# Altium footprint library Buzzer.PcbLib: 1 footprints
Each footprint in its own frame and in the unit in brackets; x right, y up, seen from the top. Pads: shape width x height; smd on the part's side, far side on the other; paste and mask are expansions set on the pad; w line width, h text height; cw(c..) or ccw(c..) is an arc to the next point about the centre after c.
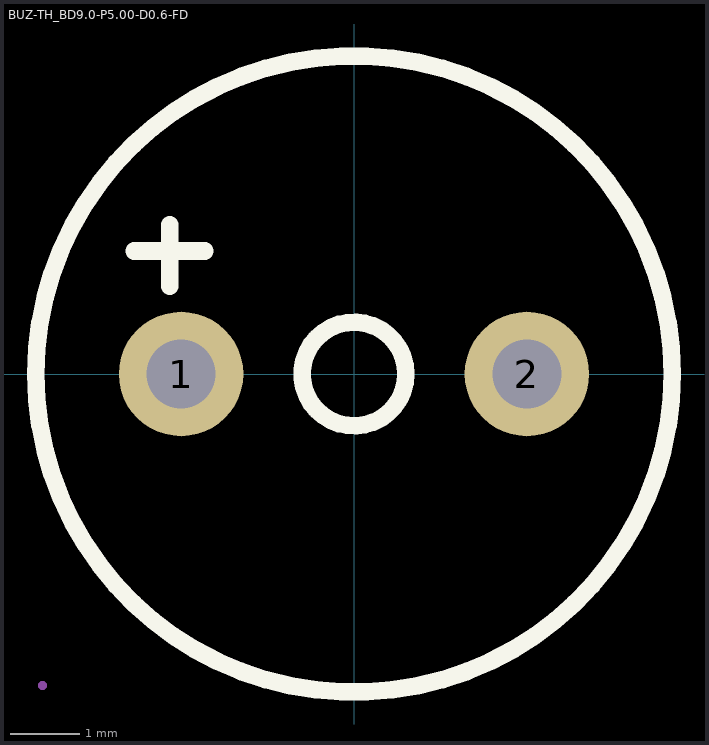
[diagram p0: the footprint, top view; thin cyan lines are the x and y axes]

## BUZ-TH_BD9.0-P5.00-D0.6-FD [mm]
pads (2):
  round 1.8 hole 1 copper offset 0,0 mask+0.051: 1(-2.5,0)
  round 1.8 hole 1 mask+0.051: 2(2.5,0)
Top Overlay:
  circle w0.254: c0,0 r0.75
  circle w0.254: c0,0 r4.6
  lines w0.254: -3.175,1.778 -2.159,1.778 ; -2.667,1.27 -2.667,2.159
Mechanical 15:
  region: -2.2,0 -2.2,0.06 -2.246,0.17 -2.33,0.254 -2.44,0.3 -2.56,0.3 -2.67,0.254 -2.754,0.17 -2.8,0.06 -2.8,0 -2.8,-0.06 -2.754,-0.17 -2.67,-0.254 -2.56,-0.3 -2.44,-0.3 -2.33,-0.254 -2.246,-0.17 -2.2,-0.06 -2.2,0
  region: 2.8,0 2.8,0.06 2.754,0.17 2.67,0.254 2.56,0.3 2.44,0.3 2.33,0.254 2.246,0.17 2.2,0.06 2.2,0 2.2,-0.06 2.246,-0.17 2.33,-0.254 2.44,-0.3 2.56,-0.3 2.67,-0.254 2.754,-0.17 2.8,-0.06 2.8,0
  region: -4.445,-4.505 -4.445,-4.48 -4.48,-4.445 -4.53,-4.445 -4.565,-4.48 -4.565,-4.505 -4.565,-4.53 -4.53,-4.565 -4.48,-4.565 -4.445,-4.53 -4.445,-4.505
  lines w0.051: -4.505,0 ccw(c0,0) 4.505,0 ccw(c0,0) -4.505,0
3D body "Buzzer.STEP": height 7.11, standoff -2.9, extent -4.5,-4.5 4.5,4.5